# Altium schematic symbol library DC_DC_converter.SchLib: 2 symbols
Pins are listed as number, name and electrical type; pins without a type are passive.

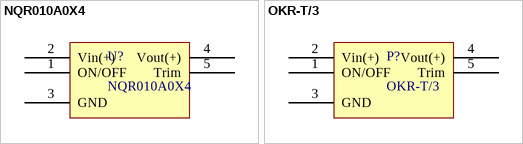
[diagram p0: symbols NQR010A0X4 to OKR-T/3]

## NQR010A0X4
designator U?
DCDC Converter 10Amps; Mfr: LINEAGE POWER
footprint DC_Converter_10A (Throu-Hole size10.4x8.43padding1.74)
pins: 1 ON/OFF, 2 Vin(+), 3 GND, 4 Vout(+), 5 Trim

## OKR-T/3
designator P?
DCDC Converter 3Amps
pins: 1 ON/OFF, 2 Vin(+), 3 GND, 4 Vout(+), 5 Trim